# Altium footprint library EVQ-PAC04M.PcbLib: 1 footprints
Each footprint in its own frame and in the unit in brackets; x right, y up, seen from the top. Pads: shape width x height; smd on the part's side, far side on the other; paste and mask are expansions set on the pad; w line width, h text height; cw(c..) or ccw(c..) is an arc to the next point about the centre after c.
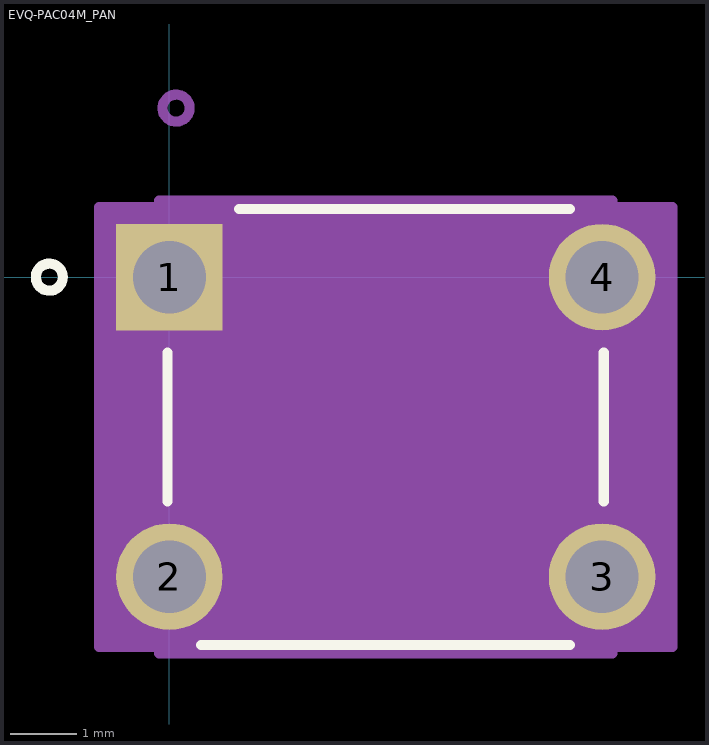
[diagram p0: the footprint, top view; thin cyan lines are the x and y axes]

## EVQ-PAC04M_PAN [mil]
pads (4):
  rect 63x63 / inner round 60 / far side rect 63x63 hole 43 paste-31.5 mask+0: 1(0,0)
  round 63 / inner round 60 / far side round 63 hole 43 paste-31.5 mask+0: 2(0,-177.17) 3(255.91,-177.17) 4(255.91,0)
Top Overlay:
  circle w6: c-71.05,0 r8
  lines w6: -1.05,-132.58 -1.05,-44.6 ; 18.86,-217.58 237.05,-217.58 ; 41.1,40.42 237.05,40.42 ; 256.95,-132.58 256.95,-44.59
Mechanical 13:
  circle w6: c3.95,100 r8
  circle w0: c127.95,-88.58 r71
  lines w1: -21.5,-198.67 -21.5,-155.67 3.95,-155.67 3.95,-198.67 -21.5,-198.67 ; -21.5,-21.5 -21.5,21.5 3.95,21.5 3.95,-21.5 -21.5,-21.5 ; 3.95,-212.58 251.95,-212.58 251.95,35.42 3.95,35.42 3.95,-212.58 ; 251.95,-198.67 251.95,-155.67 277.41,-155.67 277.41,-198.67 251.95,-198.67 ; 251.95,-21.5 251.95,21.5 277.41,21.5 277.41,-21.5 251.95,-21.5
Mechanical 15:
  region: -6.05,-218.67 -41.5,-218.67 -41.5,41.5 -6.05,41.5 -6.05,45.42 261.95,45.42 261.95,41.5 297.41,41.5 297.41,-218.67 261.95,-218.67 261.95,-222.58 -6.05,-222.58
  lines w6: -41.5,-218.67 -41.5,41.5 -6.05,41.5 -6.05,45.42 261.95,45.42 261.95,41.5 297.41,41.5 297.41,-218.67 261.95,-218.67 261.95,-222.58 -6.05,-222.58 -6.05,-218.67 -41.5,-218.67